# Altium footprint library LPON_OTHER.PcbLib: 107 footprints (part 7 of 7)
Each footprint in its own frame and in the unit in brackets; x right, y up, seen from the top. Pads: shape width x height; smd on the part's side, far side on the other; paste and mask are expansions set on the pad; w line width, h text height; cw(c..) or ccw(c..) is an arc to the next point about the centre after c.
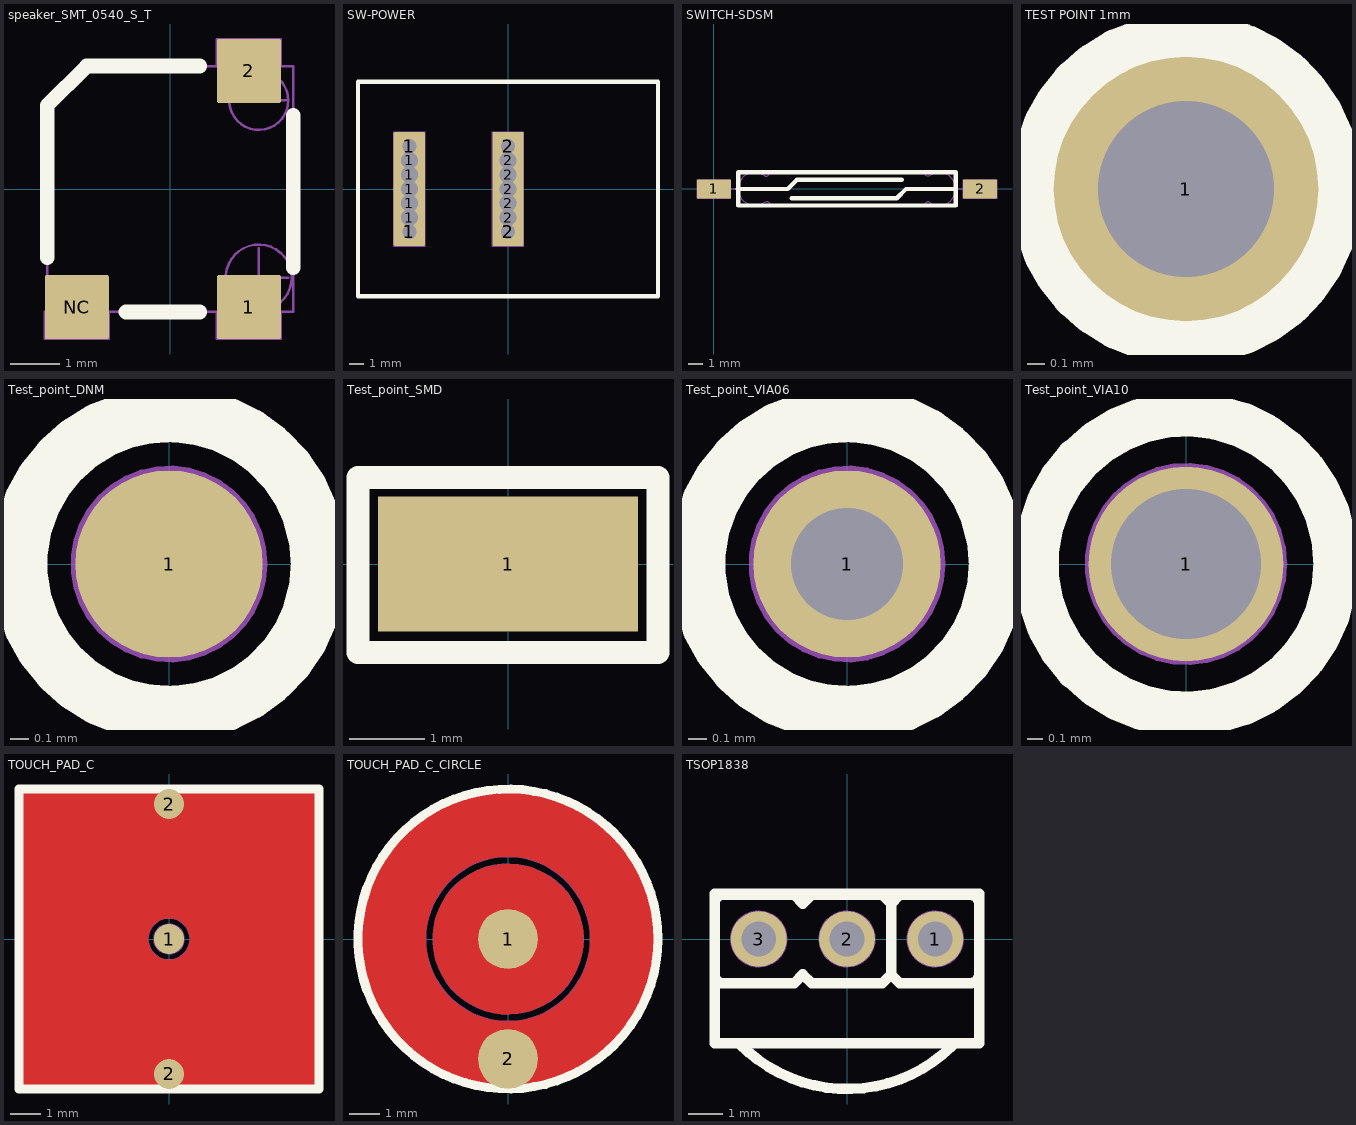
[diagram p6: the footprints below, top view; thin cyan lines are the x and y axes]

## speaker_SMT_0540_S_T [mm] "SMT_0540_S_T 5x5mm, 3V, 78dBA"
pads (3):
  rrect5% 1.3x1.3 smd mask+0.1: 1(1.6,-2.4) 2(1.6,2.4) NC(-1.9,-2.4)
Top Overlay:
  lines w0.3: -2.5,-1.4 -2.5,1.7 -1.7,2.5 0.6,2.5 ; -0.9,-2.5 0.6,-2.5 ; 2.5,-1.6 2.5,1.5
Mechanical 1:
  circle w0.05: c1.8,-1.8 r0.671
  circle w0.05: c1.8,1.8 r0.6
  lines w0.05: 1.2,-1.8 2.4,-1.8 ; 1.2,1.8 2.4,1.8 ; 1.8,-2.4 1.8,-1.2 ; -2.55,-3.05 -1.25,-3.05 -1.25,-2.5 -2.55,-2.5 -2.55,-3.05 ; -2.5,-2.5 2.5,-2.5 2.5,2.5 -1.7,2.5 -2.5,1.7 -2.5,-2.5 ; 0.95,-3.05 0.95,-2.5 2.25,-2.5 2.25,-3.05 0.95,-3.05 ; 0.95,2.5 0.95,3.05 2.25,3.05 2.25,2.5 0.95,2.5
  text "SP?" at 0,0 h0.5

## SW-POWER [mm] "switch power"
height 18
pads (14):
  rrect10% 2.2x2 hole 1 mask+0.1: 1(-6.9,-3) 1(-6.9,3) 2(0,-3) 2(0,3)
  rrect10% 2.2x1.3 hole 1.2 mask+0.1: 1(-6.9,-2) 1(-6.9,-1) 1(-6.9,0) 1(-6.9,1) 1(-6.9,2) 2(0,-2) 2(0,-1) 2(0,0) 2(0,1) 2(0,2)
Top Overlay:
  lines w0.3: -10.5,-7.5 10.5,-7.5 10.5,7.5 -10.5,7.5 -10.5,-7.5
Mechanical 1:
  lines w0.05: -10.5,-7.5 10.5,-7.5 10.5,7.5 -10.5,7.5 -10.5,-7.5 ; -8,-4 -8,4 -5.8,4 -5.8,-4 -8,-4 ; -1.1,-4 1.1,-4 1.1,4 -1.1,4 -1.1,-4
  text "SW?" at -4.4,-0.5 h1

## SWITCH-SDSM [mm] "MDSM-4 15.3mm Surface Mount Reed Switch"
height 2.84
pads (2):
  rrect10% 2.34x1.3 smd mask+0.1: 1(0,0) 2(18.34,0)
Top Overlay:
  lines w0.3: 1.651,0 5.08,0 5.715,0.635 12.954,0.635 ; 5.367,-0.635 12.606,-0.635 13.241,0 16.67,0 ; 1.67,-1.14 16.67,-1.14 16.67,1.14 1.67,1.14 1.67,-1.14
Mechanical 1:
  lines w0.05: 1.169,0 1.677,0 ; 3.522,-0.89 cw(c2.813,0.003) 3.531,0.889 3.585,0.889 ccw(c3.585,1.14) 3.836,1.14 14.504,1.14 ccw(c14.751,1.14) 14.81,0.9 ; 3.522,-0.884 3.639,-0.884 cw(c3.639,-1.14) 3.895,-1.14 14.535,-1.14 cw(c14.79,-1.14) 14.79,-0.886 ; 14.802,-0.886 ccw(c15.52,0) 14.812,0.893 ; 16.663,0 17.171,0 ; -1.17,-0.65 1.17,-0.65 1.17,0.65 -1.17,0.65 -1.17,-0.65 ; 17.17,-0.65 17.17,0.65 19.51,0.65 19.51,-0.65 17.17,-0.65
  text "SW?" at 7.747,-0.254 h1

## TEST POINT 1mm [mm]
pads (1):
  round 1.5 hole 1 mask+0.1: 1(0,0)
Top Overlay:
  circle w0.3: c0,0 r0.85
Bottom Overlay:
  circle w0.3: c0,0 r0.85
Mechanical 2:
  circle w0.05: c0,0 r0.85

## Test_point_DNM [mm] "Test point do not mount"
pads (1):
  round 1 smd: 1(0,0)
Top Overlay:
  circle w0.3: c0,0 r0.8
Mechanical 1:
  circle w0.05: c0,0 r0.5
  text "TP?" at 0,0 h1

## Test_point_SMD [mil] "Test_point_SMD"
height 90.55
pads (1):
  rect 135x70 smd: 1(0,0)
Top Overlay:
  lines w11.81: -78,-46 78,-46 78,45 5,45 -65,45 -78,45 -78,-38 -78,-46
Mechanical 1:
  lines w1.97: -78,-46 78,-46 78,45 5,45 -65,45 -78,45 -78,-38 -78,-46
  text "TP?" at 0,0 h39.37
3D body "keystone_5015.stp": height 60.6, standoff 0.6, extent -52.5,-20 52.5,20

## Test_point_VIA06 [mm] "Test point do not mount"
pads (1):
  round 1 hole 0.6: 1(0,0)
Top Overlay:
  circle w0.3: c0,0 r0.8
Mechanical 1:
  circle w0.05: c0,0 r0.5
  text "TP?" at 0,0 h1

## Test_point_VIA10 [mm] "Test point do not mount"
pads (1):
  round 1.3 hole 1: 1(0,0)
Top Overlay:
  circle w0.3: c0,0 r1
Mechanical 1:
  circle w0.05: c0,0 r0.65
  text "TP?" at 0,0 h1
3D body "User Library-TEST POINT BLU Keystone 5117.step": height 4.89, standoff -3.07, extent -1.27,-1.27 1.27,1.27

## TOUCH_PAD_C [mm] "Capacitive Touch Sensing"
pads (3):
  round 1 smd: 1(0,0)
  round 1 smd mask+0: 2(0,-4.5) 2(0,4.5)
Top Layer:
  region: -4.99,0 -0.7,0 -0.694,0.091 -0.647,0.268 -0.555,0.426 -0.426,0.555 -0.268,0.647 -0.091,0.694 0.091,0.694 0.268,0.647 0.426,0.555 0.555,0.426 0.647,0.268 0.694,0.091 0.7,0 5,0 5,5 -5,5
  region: 4.99,0 0.7,0 0.694,-0.091 0.647,-0.268 0.555,-0.426 0.426,-0.555 0.268,-0.647 0.091,-0.694 -0.091,-0.694 -0.268,-0.647 -0.426,-0.555 -0.555,-0.426 -0.647,-0.268 -0.694,-0.091 -0.7,0 -5,0 -5,-5 5,-5
Top Overlay:
  lines w0.3: -5,-5 5,-5 5,5 -5,5 -5,-5
Mechanical 1:
  circle w0.05: c0,0 r0.5
  lines w0.05: -5,0 -4.99,0 -0.7,0 ; -5,0 -5,5 5,5 5,0 ; -5,0 -5,-5 5,-5 5,0 ; -0.7,0 ccw(c0,0) 0.7,0 ; -0.7,0 cw(c0,0) 0.7,0 ; 0.7,0 5,0

## TOUCH_PAD_C_CIRCLE [mm] "Capacitive Touch Sensing"
pads (2):
  round 2 smd mask+0: 1(0,0) 2(0,-4)
Top Layer:
  region: -4.99,0 -4.99,-0.327 -4.905,-0.976 -4.735,-1.607 -4.485,-2.212 -4.158,-2.778 -3.76,-3.297 -3.297,-3.76 -2.778,-4.158 -2.212,-4.485 -1.607,-4.735 -0.976,-4.905 -0.327,-4.99 0.327,-4.99 0.976,-4.905 1.607,-4.735 2.212,-4.485 2.778,-4.158 3.297,-3.76 3.76,-3.297 4.158,-2.778 4.485,-2.212 4.735,-1.607 4.905,-0.976 4.99,-0.327 4.99,0 2.75,0 2.742,-0.216 2.674,-0.642 2.541,-1.052 2.345,-1.437 2.091,-1.786 1.786,-2.091 1.437,-2.345 1.052,-2.541 0.642,-2.674 0.216,-2.742 -0.216,-2.742 -0.642,-2.674 -1.052,-2.541 -1.437,-2.345 -1.786,-2.091 -2.091,-1.786 -2.345,-1.437 -2.541,-1.052 -2.674,-0.642 -2.742,-0.216 -2.75,0
  region: -4.99,0 -2.75,0 -2.742,0.216 -2.674,0.642 -2.541,1.052 -2.345,1.437 -2.091,1.786 -1.786,2.091 -1.437,2.345 -1.052,2.541 -0.642,2.674 -0.216,2.742 0.216,2.742 0.642,2.674 1.052,2.541 1.437,2.345 1.786,2.091 2.091,1.786 2.345,1.437 2.541,1.052 2.674,0.642 2.742,0.216 2.75,0 5,0 5,0.327 4.915,0.977 4.745,1.609 4.494,2.214 4.167,2.781 3.768,3.3 3.305,3.763 2.786,4.162 2.219,4.489 1.614,4.74 0.982,4.91 0.332,4.995 -0.322,4.995 -0.972,4.91 -1.604,4.74 -2.209,4.489 -2.776,4.162 -3.296,3.763 -3.758,3.3 -4.157,2.781 -4.484,2.214 -4.735,1.609 -4.905,0.977 -4.99,0.327
  region: 0,-2.5 -0.246,-2.5 -0.729,-2.404 -1.184,-2.215 -1.594,-1.942 -1.942,-1.594 -2.215,-1.184 -2.404,-0.729 -2.5,-0.246 -2.5,0 -2.5,0.246 -2.404,0.729 -2.215,1.184 -1.942,1.594 -1.594,1.942 -1.184,2.215 -0.729,2.404 -0.246,2.5 0,2.5 0.246,2.5 0.729,2.404 1.184,2.215 1.594,1.942 1.942,1.594 2.215,1.184 2.404,0.729 2.5,0.246 2.5,0 2.5,-0.246 2.404,-0.729 2.215,-1.184 1.942,-1.594 1.594,-1.942 1.184,-2.215 0.729,-2.404 0.246,-2.5
Top Overlay:
  circle w0.3: c0,0 r5
Mechanical 1:
  circle w0.05: c0,0 r2.5
  lines w0.05: -5,0 cw(c0,0) 5,0 2.75,0 ; 4.99,0 cw(c0,0) -4.99,0 -2.75,0 ; -2.75,0 ccw(c0,0) 2.75,0 ; -2.75,0 cw(c0,0) 2.75,0

## TSOP1838 [mm] "Connector DIP, 3Pin_2.54mm"
height 8.25
pads (3):
  round 1.6 hole 1 mask+0.1: 1(2.54,0) 2(0,0) 3(-2.54,0)
Top Overlay:
  lines w0.3: -3.098,-3.009 ccw(c0,0) 3.012,-3.095 ; -1.524,-1.28 -1.524,-1.27 ; -1.524,1.27 -1.27,1.016 -1.016,1.27 ; -1.524,1.28 -3.57,1.28 ccw(c-3.55,1.02) -3.81,1 -3.81,-1 ccw(c-3.55,-1.02) -3.57,-1.28 -1.534,-1.28 -1.524,-1.27 ; -1.016,1.28 1.016,1.28 ; 1.016,-1.28 -1.016,-1.28 -1.27,-1.026 -1.27,-1.016 -1.524,-1.27 ; 1.016,-1.27 1.27,-1.016 ; 1.016,1.27 1.27,1.016 ; 1.524,1.27 1.27,1.016 ; 1.524,1.28 3.556,1.28 3.556,1.27 ; 3.53,-1.28 ccw(c3.53,-1) 3.81,-1 3.81,1 ccw(c3.53,1) 3.53,1.28 ; 3.556,-1.27 3.556,-1.28 1.524,-1.28 1.27,-1.026 1.27,-1.016 ; -3.81,1.3 -3.81,-3 3.81,-3 3.81,1.3 ; -3.81,1.3 3.81,1.3 ; -3.81,1.3 3.81,1.3 ; 1.27,-1.016 1.27,1.016
Mechanical 1:
  circle w0.05: c0,0 r0.8
  circle w0.05: c-2.54,0 r0.8
  circle w0.05: c2.54,0 r0.8
  lines w0.05: -3.098,-3.009 ccw(c0,0) 3.012,-3.095 ; -3.81,-1 ccw(c-3.55,-1.02) -3.57,-1.28 ; -3.81,-1 ccw(c-3.55,-1.02) -3.57,-1.28 ; -3.81,-1 -3.81,1 ; -3.81,-1 -3.81,1 ; -3.81,1 cw(c-3.55,1.02) -3.57,1.28 ; -3.81,1 cw(c-3.55,1.02) -3.57,1.28 ; -3.81,1.3 3.81,1.3 ; -3.81,1.3 3.81,1.3 ; -3.81,1.3 -3.81,-3 3.81,-3 3.81,1.3 ; -3.57,-1.28 -1.534,-1.28 ; -3.57,-1.28 -1.534,-1.28 ; -3.57,1.28 -1.524,1.28 -3.57,1.28 ; -1.534,-1.28 -1.524,-1.27 ; -1.534,-1.28 -1.524,-1.27 ; -1.524,-1.27 -1.524,-1.28 -1.524,-1.27 ; -1.524,-1.27 -1.27,-1.016 ; -1.524,-1.27 -1.27,-1.016 ; -1.27,-1.026 -1.27,-1.016 ; -1.27,-1.026 -1.016,-1.28 ; -1.27,-1.026 -1.27,-1.016 ; -1.27,-1.026 -1.016,-1.28 ; -1.27,1.016 -1.524,1.27 -1.27,1.016 ; -1.27,1.016 -1.016,1.27 -1.27,1.016 ; -1.016,-1.28 1.016,-1.28 -1.016,-1.28 ; 1.27,-1.026 1.524,-1.28 ; 1.27,-1.026 1.27,-1.016 ; 1.27,-1.026 1.524,-1.28 ; 1.27,-1.026 1.27,-1.016 ; 1.27,-1.016 1.27,1.016 ; 1.27,-1.016 1.016,-1.27 1.27,-1.016 ; 1.27,1.016 1.524,1.27 1.27,1.016 ; 1.27,1.016 1.016,1.27 1.27,1.016 ; 1.524,-1.28 3.556,-1.28 ; 1.524,-1.28 3.556,-1.28 ; 3.556,-1.28 3.556,-1.27 3.556,-1.28 ; 3.556,1.28 3.556,1.27 3.556,1.28 ; 3.556,1.28 1.524,1.28 3.556,1.28 ; 3.81,-1 cw(c3.53,-1) 3.53,-1.28 ccw(c3.53,-1) 3.81,-1 ; 3.81,-1 3.81,1 ; 3.81,-1 3.81,1 ; 3.81,1 ccw(c3.53,1) 3.53,1.28 cw(c3.53,1) 3.81,1 ; -1.016,1.28 1.016,1.28 -1.016,1.28
  text "1" at 2.286,-0.254 h1.2
  text "3" at -2.794,-0.254 h1.2
  text "OUT" at -3.5,-2.7 h1
  text "VCC" at 0.9,-2.7 h1
  text "GND" at 0.5,-4.2 h1
3D body "User Library-TSOP34438.STEP": height 8.95, standoff -3.6, extent -3,-4.05 3,1.55